# EAGLE library part LTC6992 (library Engs125_lib_UPDATEFeb22)
LTC6992 is a silicon oscillator with an easy-to-use analog voltage-controlled pulse width modulation (PWM) capability.
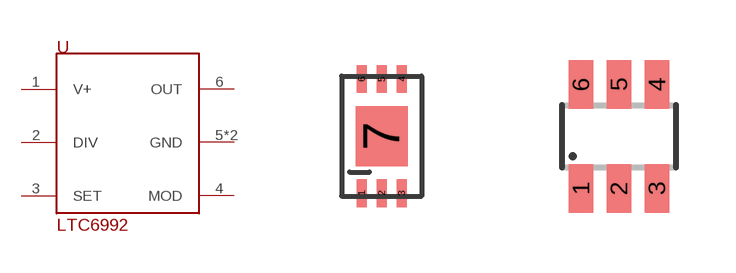
[diagram p1: symbol with the pads of LTC6992; footprints LTC6992, TSOT23-6]

Designator prefix U

## LTC6992DCB  [LTC6992]
1  V+
2  DIV
3  SET
4  MOD
5  GND
6  OUT
7  GND

## LTC6992TSOT-23  [TSOT23-6]
1  MOD
2  GND
3  SET
4  DIV
5  V+
6  OUT

## Footprint LTC6992 (pad centres in mm)
Package/footprint for LTC6992. Date created: 10/4/2017
smd 0.25 x 0.7: 1 -0.5,-1.425; 2 0,-1.425; 3 0.5,-1.425; 4 0.5,1.425; 5 0,1.425; 6 -0.5,1.425
smd 1.3 x 1.5: 7 0,0

## Footprint TSOT23-6 (pad centres in mm)
S6 Package 6-Lead Plastic TSOT-23 Source: http://cds.linear.com/docs/Datasheet/623012fb.pdf
smd 0.62 x 1.22: 1 -0.95,-1.3; 2 0,-1.3; 3 0.95,-1.3; 4 0.95,1.3; 5 0,1.3; 6 -0.95,1.3